# EAGLE library part PIC_HDR-2X5 (library connector)
PIC HDR 2x5 **NOTE: Female CONN are 'backwards' to Male counterparts -DIGIKEY S9094-ND "SMD Shrouded male header" -DIGIKEY S9006E-05-ND "SMD shrouded female header"
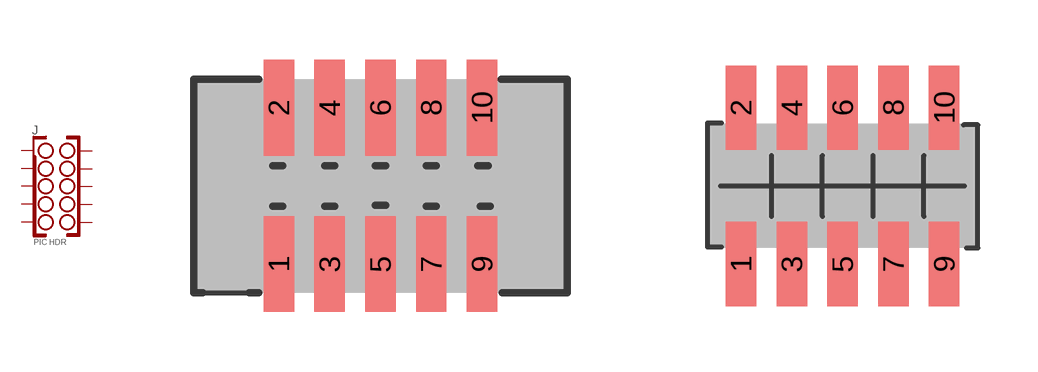
[diagram p5: symbol with the pads of S9094-ND; footprints S9094-ND, S9006E-05-ND]

Designator prefix J

## PIC_HDR-2X5SMD_MALE (P1I: o)  [S9094-ND]
1  1
2  2
3  3
4  4
5  5
6  6
7  7
8  8
9  9
10  10

## PIC_HDR-2X5SMD_FEMALE (P1I: o)  [S9006E-05-ND]
1  2
2  1
3  4
4  3
5  6
6  5
7  8
8  7
9  10
10  9

## PIC_HDR-2X5TH (DIGIKEY: S9085-ND)  [S9085]
Pads as for S9094-ND

## PIC_HDR-2X5STANDARD_TH (DIGIKEY: 1175-1627-ND)  [3220-10-0100]
Pads as for S9094-ND

## PIC_HDR-2X5STANDARD_SMT (DIGIKEY: 1175-1629-ND)  [3220-10-0300]
Pads as for S9094-ND

## Footprint S9094-ND (pad centres in mm)
Neofocal STANDARD: DIGIKEY S9094-ND "SMD Shrouded male header"
smd 0.762 x 2.388: 1 -2.54,-1.956; 2 -2.54,1.956; 3 -1.27,-1.956; 4 -1.27,1.956; 5 0,-1.956; 6 0,1.956; 7 1.27,-1.956; 8 1.27,1.956; 9 2.54,-1.956; 10 2.54,1.956

## Footprint S9006E-05-ND (pad centres in mm)
Neofocal: DIgikey S9006E-05-ND SMD shrouded HDR female
smd 0.762 x 2.108: 1 -2.54,-1.956; 2 -2.54,1.956; 3 -1.27,-1.956; 4 -1.27,1.956; 5 0,-1.956; 6 0,1.956; 7 1.27,-1.956; 8 1.27,1.956; 9 2.54,-1.956; 10 2.54,1.956

## Footprint S9085 (pad centres in mm)
drill 0.711 pad 1.016: 1 -2.54,-0.635; 2 -2.54,0.635; 3 -1.27,-0.635; 4 -1.27,0.635; 5 0,-0.635; 6 0,0.635; 7 1.27,-0.635; 8 1.27,0.635; 9 2.54,-0.635; 10 2.54,0.635

## Footprint 3220-10-0100 (pad centres in mm)
drill 0.711 pad 1.016: 1 -2.54,-0.635; 2 -2.54,0.635; 3 -1.27,-0.635; 4 -1.27,0.635; 5 0,-0.635; 6 0,0.635; 7 1.27,-0.635; 8 1.27,0.635; 9 2.54,-0.635; 10 2.54,0.635

## Footprint 3220-10-0300 (pad centres in mm)
smd 0.76 x 2.4: 1 -2.54,-1.956; 2 -2.54,1.956; 3 -1.27,-1.956; 4 -1.27,1.956; 5 0,-1.956; 6 0,1.956; 7 1.27,-1.956; 8 1.27,1.956; 9 2.54,-1.956; 10 2.54,1.956